# Altium schematic symbol library lcd_TFT_and_TOUCH.SchLib: 1 symbol
Pins are listed as number, name and electrical type; pins without a type are passive.

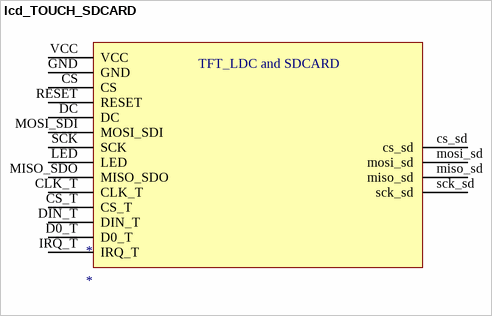
[diagram p0: symbol lcd_TOUCH_SDCARD]

## lcd_TOUCH_SDCARD
designator *
footprint PCB_LCDandTOUCH
pins: CLK_T, CS, cs_sd, CS_T, D0_T, DC, DIN_T, GND, IRQ_T, LED, miso_sd, MISO_SDO, mosi_sd, MOSI_SDI, RESET, SCK, sck_sd, VCC
text: TFT_LDC and SDCARD